# Altium schematic symbol library 2005280040.SchLib: 1 symbol
Pins are listed as number, name and electrical type; pins without a type are passive.

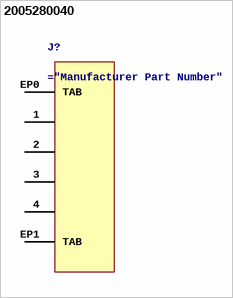
[diagram p0: symbol 2005280040]

## 2005280040
designator J?
4 Position FFC, FPC Connector Contacts, Bottom 0.039" (1.00mm) Surface Mount, Right Angle
pins: 1, 2, 3, 4, EP0 TAB, EP1 TAB